# Altium schematic symbol library mono_OLED.SchLib: 1 symbol
Pins are listed as number, name and electrical type; pins without a type are passive.

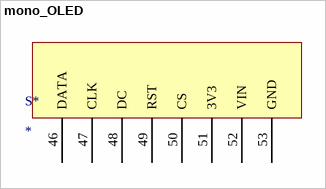
[diagram p0: symbol mono_OLED]

## mono_OLED
designator S*
Adafruit Monochrome 1.12" 128x128 OLED Graphic Display
footprint mono_OLED (Footprint not found)
pins: 46 DATA, 47 CLK, 48 DC, 49 RST, 50 CS, 51 3V3, 52 VIN, 53 GND